# EAGLE library part AS179-92LF (library WSNlib)
AS179-92LF 2.4GHz GaAs SPDT Switch
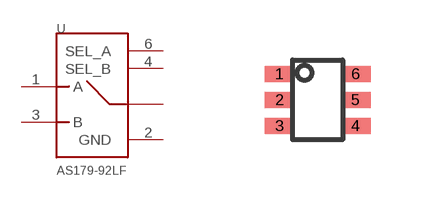
[diagram p6: symbol with the pads of SC-70; footprint SC-70]

Designator prefix -

## AS179-92LF  [SC-70]
1  A
2  GND
3  B
4  SEL_B
5  W
6  SEL_A

## Footprint SC-70 (pad centres in mm)
smd 0.75 x 0.4: 1 -0.95,0.65; 2 -0.95,0; 3 -0.95,-0.65; 4 0.95,-0.65; 5 0.95,0; 6 0.95,0.65